# EAGLE library part ISO35 (library Dmitry)
RS485
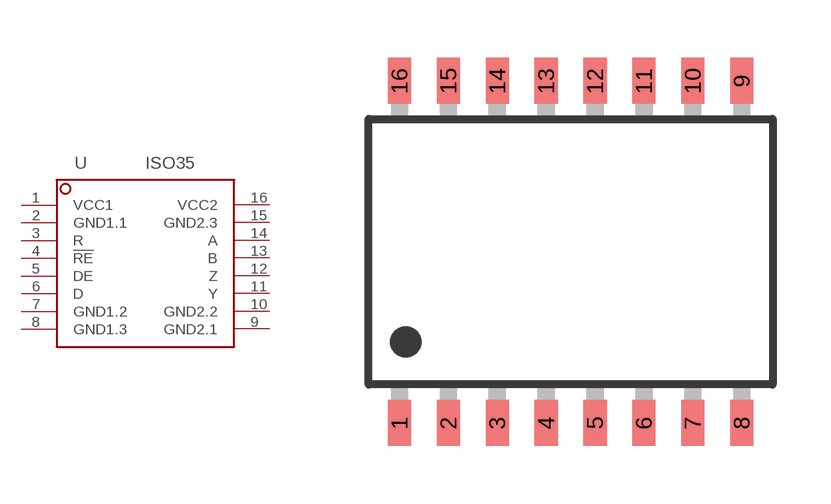
[diagram p17: symbol with the pads of ISO35_SOIC16; footprint ISO35_SOIC16]

Designator prefix U

## ISO35  [ISO35_SOIC16]
1  VCC1
2  GND1.1
3  R
4  !RE
5  DE
6  D
7  GND1.2
8  GND1.3
9  GND2.1
10  GND2.2
11  Y
12  Z
13  B
14  A
15  GND2.3
16  VCC2

## Footprint ISO35_SOIC16 (pad centres in mm)
E-Ultra (TM) 10/100BASE-TX SOIC-16 Fast Ethernet Magnetic Modules Source: www.haloelectronics.com .. e-ultra.pdf
smd 0.6 x 1.2: 1 -4.445,-4.445; 2 -3.175,-4.445; 3 -1.905,-4.445; 4 -0.635,-4.445; 5 0.635,-4.445; 6 1.905,-4.445; 7 3.175,-4.445; 8 4.445,-4.445; 9 4.445,4.445; 10 3.175,4.445; 11 1.905,4.445; 12 0.635,4.445; 13 -0.635,4.445; 14 -1.905,4.445; 15 -3.175,4.445; 16 -4.445,4.445